# Altium footprint library MSS1278H334KED.PcbLib: 1 footprints
Each footprint in its own frame and in the unit in brackets; x right, y up, seen from the top. Pads: shape width x height; smd on the part's side, far side on the other; paste and mask are expansions set on the pad; w line width, h text height; cw(c..) or ccw(c..) is an arc to the next point about the centre after c.
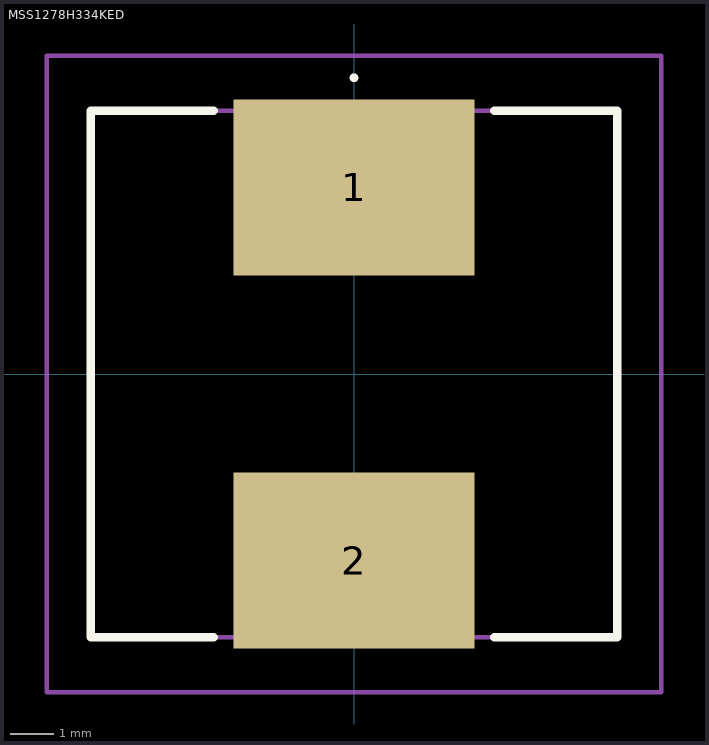
[diagram p0: the footprint, top view; thin cyan lines are the x and y axes]

## MSS1278H334KED [mm]
pads (2):
  rect 5.5x4 smd: 1(0,4.25) 2(0,-4.25)
Top Overlay:
  lines w0.1: 0,6.7 cw(c0,6.75) 0,6.8 ; 0,6.7 0,6.7 ; 0,6.7 ccw(c0,6.75) 0,6.8 ; 0,6.8 0,6.8
  lines w0.2: -3.2,-6 -6,-6 -6,6 -3.2,6 ; 3.2,-6 6,-6 6,6 3.2,6
Mechanical 15:
  lines w0.1: -6,-6 6,-6 6,6 -6,6 -6,-6
Mechanical 20:
  lines w0.1: -7,-7.25 7,-7.25 7,7.25 -7,7.25 -7,-7.25